# Altium schematic symbol library Logic - Translators, Level Shifters.SchLib: 3 symbols
Pins are listed as number, name and electrical type; pins without a type are passive.

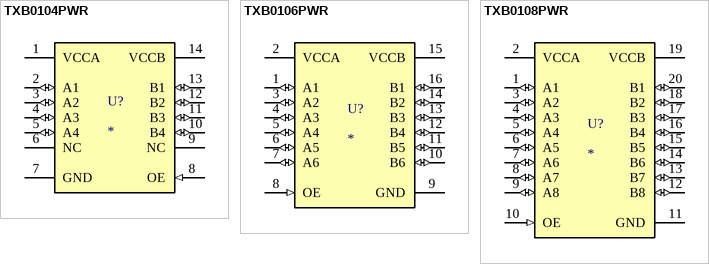
[diagram p0: symbols TXB0104PWR to TXB0108PWR]

## TXB0104PWR
designator U?
IC TRNSLTR BIDIRECTIONAL 14TSSOP; Supplier 1: Digi-Key; Supplier 2: Farnell; Supplier 3: Mouser; Supplier Part Number 1: 296-21929-6-ND; Supplier Part Number 2: 1607891; Supplier Part Number 3: 595-TXB0104PWR
footprint TI_14-TSSOP
pins: 1 VCCA, 2 A1 (io), 3 A2 (io), 4 A3 (io), 5 A4 (io), 6 NC, 7 GND, 8 OE (in), 9 NC, 10 B4 (io), 11 B3 (io), 12 B2 (io), 13 B1 (io), 14 VCCB

## TXB0106PWR
designator U?
IC TRNSLTR BIDIRECTIONAL 16TSSOP; Supplier 1: Digi-Key; Supplier 2: Farnell; Supplier 3: Mouser; Supplier Part Number 1: 296-23759-6-ND; Supplier Part Number 2: 3120969; Supplier Part Number 3: 595-TXB0106PWR
footprint TI_16-TSSOP
pins: 1 A1 (io), 2 VCCA, 3 A2 (io), 4 A3 (io), 5 A4 (io), 6 A5 (io), 7 A6 (io), 8 OE (in), 9 GND, 10 B6 (io), 11 B5 (io), 12 B4 (io), 13 B3 (io), 14 B2 (io), 15 VCCB, 16 B1 (io)

## TXB0108PWR
designator U?
IC TRNSLTR BIDIRECTIONAL 20TSSOP; Supplier 1: Digi-Key; Supplier 2: Farnell; Supplier 3: Mouser; Supplier Part Number 1: 296-21527-1-ND; Supplier Part Number 2: 3120973; Supplier Part Number 3: 595-TXB0108PWR
footprint TI_20-TSSOP
pins: 1 A1 (io), 2 VCCA, 3 A2 (io), 4 A3 (io), 5 A4 (io), 6 A5 (io), 7 A6 (io), 8 A7 (io), 9 A8 (io), 10 OE (in), 11 GND, 12 B8 (io), 13 B7 (io), 14 B6 (io), 15 B5 (io), 16 B4 (io), 17 B3 (io), 18 B2 (io), 19 VCCB, 20 B1 (io)